# EAGLE library part TETRODE-INDIREKT (library 1A-meinLib)
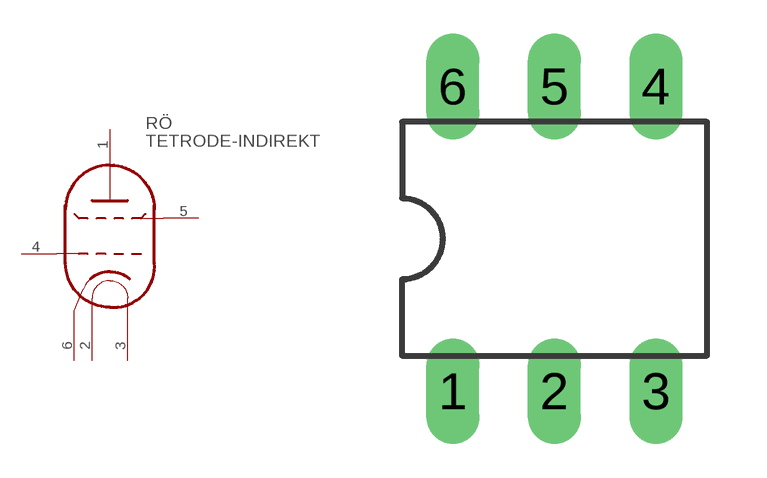
[diagram p98: symbol with the pads of DIL06; footprint DIL06]

Designator prefix RÖ

## TETRODE-INDIREKT  [DIL06]
1  A
2  F1
3  F2
4  G1
5  G2
6  K

## Footprint DIL06 (pad centres in mm)
Dual In Line Package
drill 0.813 long: 1 -2.54,-3.81; 2 0,-3.81; 3 2.54,-3.81; 4 2.54,3.81; 5 0,3.81; 6 -2.54,3.81